# EAGLE library part BBSLAVE (library ioshub)
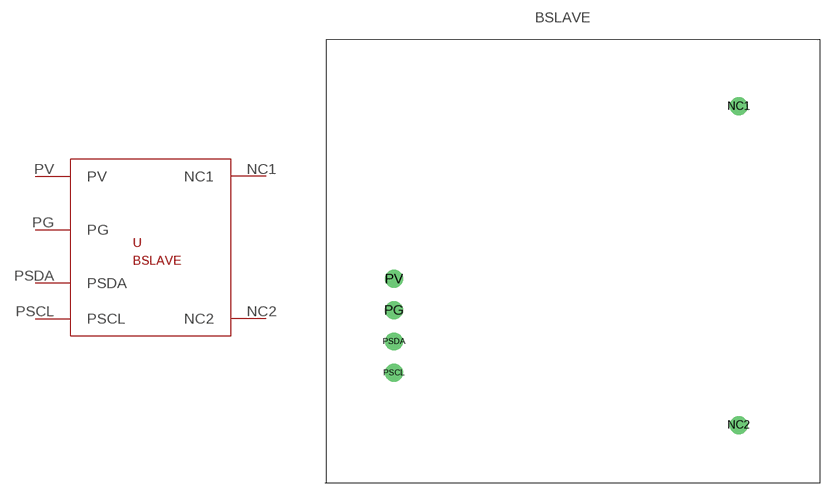
[diagram p2: symbol with the pads of BBSLAVE; footprint BBSLAVE]

Designator prefix -

## BBSLAVESL01  [BBSLAVE]
NC1  NC1
NC2  NC2
PG  PG
PSCL  PSCL
PSDA  PSDA
PV  PV

## Footprint BBSLAVE (pad centres in mm)
drill 0.6 pad 2.184: NC1 50.165,45.72; NC2 50.165,6.985; PG 8.255,20.955; PSCL 8.255,13.335; PSDA 8.255,17.145; PV 8.255,24.765